# EAGLE library part QSH-060-01 (library Traficon)
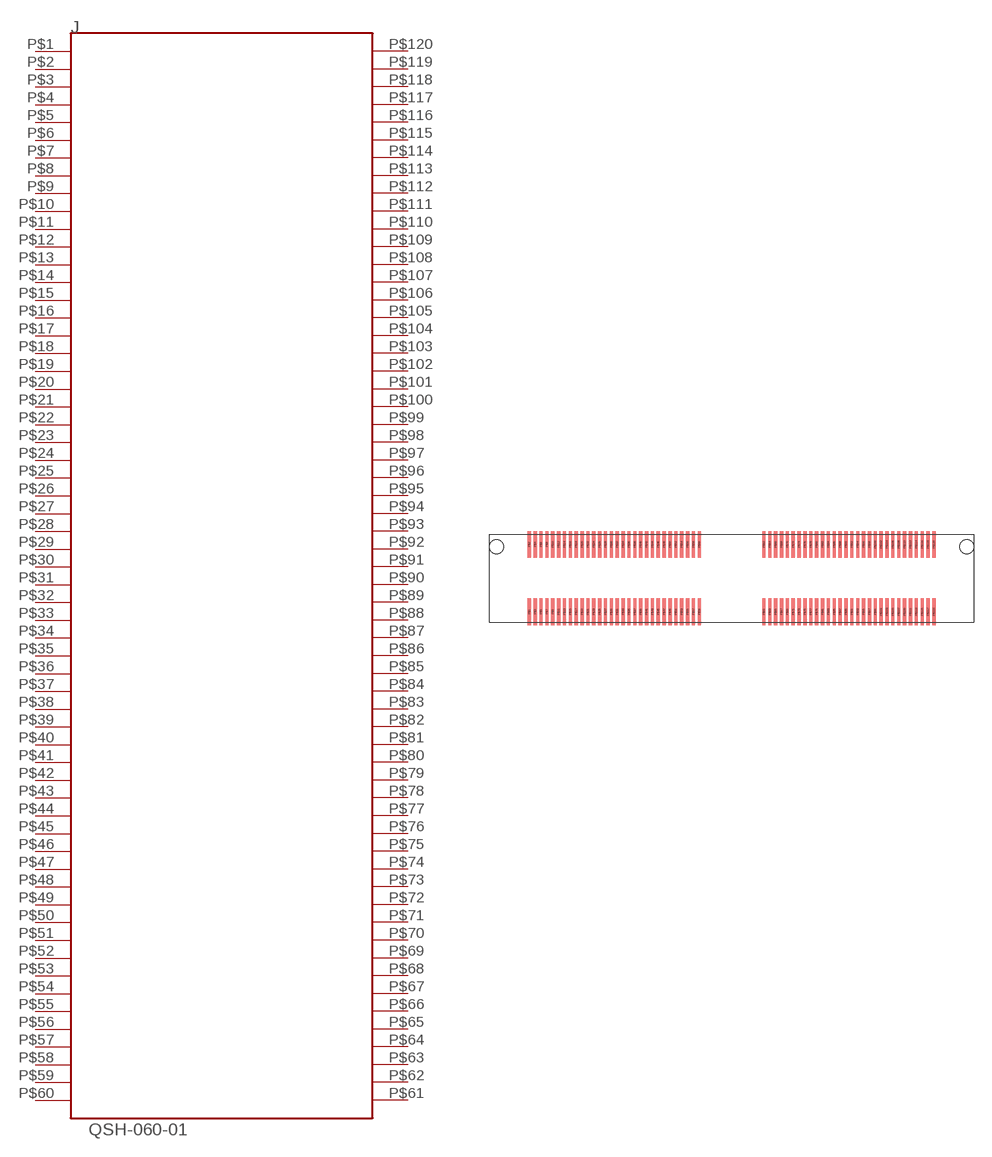
[diagram p122: symbol with the pads of QSH-060-01; footprint QSH-060-01]

Designator prefix J

## QSH-060-01  [QSH-060-01]
P$1  1
P$2  3
P$3  5
P$4  7
P$5  9
P$6  11
P$7  13
P$8  15
P$9  17
P$10  19
P$11  21
P$12  23
P$13  25
P$14  27
P$15  29
P$16  31
P$17  33
P$18  35
P$19  37
P$20  39
P$21  41
P$22  43
P$23  45
P$24  47
P$25  49
P$26  51
P$27  53
P$28  55
P$29  57
P$30  59
P$31  61
P$32  63
P$33  65
P$34  67
P$35  69
P$36  71
P$37  73
P$38  75
P$39  77
P$40  79
P$41  81
P$42  83
P$43  85
P$44  87
P$45  89
P$46  91
P$47  93
P$48  95
P$49  97
P$50  99
P$51  101
P$52  103
P$53  105
P$54  107
P$55  109
P$56  111
P$57  113
P$58  115
P$59  117
P$60  119
P$61  120
P$62  118
P$63  116
P$64  114
P$65  112
P$66  110
P$67  108
P$68  106
P$69  104
P$70  102
P$71  100
P$72  98
P$73  96
P$74  94
P$75  92
P$76  90
P$77  88
P$78  86
P$79  84
P$80  82
P$81  80
P$82  78
P$83  76
P$84  74
P$85  72
P$86  70
P$87  68
P$88  66
P$89  64
P$90  62
P$91  60
P$92  58
P$93  56
P$94  54
P$95  52
P$96  50
P$97  48
P$98  46
P$99  44
P$100  42
P$101  40
P$102  38
P$103  36
P$104  34
P$105  32
P$106  30
P$107  28
P$108  26
P$109  24
P$110  22
P$111  20
P$112  18
P$113  16
P$114  14
P$115  12
P$116  10
P$117  8
P$118  6
P$119  4
P$120  2

## Footprint QSH-060-01 (pad centres in mm)
smd 0.28 x 2.27: P$1 -17.255,-2.87; P$2 -17.255,2.87; P$3 -16.755,-2.87; P$4 -16.755,2.87; P$5 -16.255,-2.87; P$6 -16.255,2.87; P$7 -15.755,-2.87; P$8 -15.755,2.87; P$9 -15.255,-2.87; P$10 -15.255,2.87; P$11 -14.755,-2.87; P$12 -14.755,2.87; P$13 -14.255,-2.87; P$14 -14.255,2.87; P$15 -13.755,-2.87; P$16 -13.755,2.87; P$17 -13.255,-2.87; P$18 -13.255,2.87; P$19 -12.755,-2.87; P$20 -12.755,2.87; P$21 -12.255,-2.87; P$22 -12.255,2.87; P$23 -11.755,-2.87; P$24 -11.755,2.87; P$25 -11.255,-2.87; P$26 -11.255,2.87; P$27 -10.755,-2.87; P$28 -10.755,2.87; P$29 -10.255,-2.87; P$30 -10.255,2.87; P$31 -9.755,-2.87; P$32 -9.755,2.87; P$33 -9.255,-2.87; P$34 -9.255,2.87; P$35 -8.755,-2.87; P$36 -8.755,2.87; P$37 -8.255,-2.87; P$38 -8.255,2.87; P$39 -7.755,-2.87; P$40 -7.755,2.87; P$41 -7.255,-2.87; P$42 -7.255,2.87; P$43 -6.755,-2.87; P$44 -6.755,2.87; P$45 -6.255,-2.87; P$46 -6.255,2.87; P$47 -5.755,-2.87; P$48 -5.755,2.87; P$49 -5.255,-2.87; P$50 -5.255,2.87; P$51 -4.755,-2.87; P$52 -4.755,2.87; P$53 -4.255,-2.87; P$54 -4.255,2.87; P$55 -3.755,-2.87; P$56 -3.755,2.87; P$57 -3.255,-2.87; P$58 -3.255,2.87; P$59 -2.755,-2.87; P$60 -2.755,2.87; P$61 2.755,-2.87; P$62 2.755,2.87; P$63 3.255,-2.87; P$64 3.255,2.87; P$65 3.755,-2.87; P$66 3.755,2.87; P$67 4.255,-2.87; P$68 4.255,2.87; P$69 4.755,-2.87; P$70 4.755,2.87; P$71 5.255,-2.87; P$72 5.255,2.87; P$73 5.755,-2.87; P$74 5.755,2.87; P$75 6.255,-2.87; P$76 6.255,2.87; P$77 6.755,-2.87; P$78 6.755,2.87; P$79 7.255,-2.87; P$80 7.255,2.87; P$81 7.755,-2.87; P$82 7.755,2.87; P$83 8.255,-2.87; P$84 8.255,2.87; P$85 8.755,-2.87; P$86 8.755,2.87; P$87 9.255,-2.87; P$88 9.255,2.87; P$89 9.755,-2.87; P$90 9.755,2.87; P$91 10.255,-2.87; P$92 10.255,2.87; P$93 10.755,-2.87; P$94 10.755,2.87; P$95 11.255,-2.87; P$96 11.255,2.87; P$97 11.755,-2.87; P$98 11.755,2.87; P$99 12.255,-2.87; P$100 12.255,2.87; P$101 12.755,-2.87; P$102 12.755,2.87; P$103 13.255,-2.87; P$104 13.255,2.87; P$105 13.755,-2.87; P$106 13.755,2.87; P$107 14.255,-2.87; P$108 14.255,2.87; P$109 14.755,-2.87; P$110 14.755,2.87; P$111 15.255,-2.87; P$112 15.255,2.87; P$113 15.755,-2.87; P$114 15.755,2.87; P$115 16.255,-2.87; P$116 16.255,2.87; P$117 16.755,-2.87; P$118 16.755,2.87; P$119 17.255,-2.87; P$120 17.255,2.87
hole 1.2 at -20.065,2.67
hole 1.2 at 20.065,2.67